# Altium footprint library Switch.PcbLib: 24 footprints (part 2 of 2)
Each footprint in its own frame and in the unit in brackets; x right, y up, seen from the top. Pads: shape width x height; smd on the part's side, far side on the other; paste and mask are expansions set on the pad; w line width, h text height; cw(c..) or ccw(c..) is an arc to the next point about the centre after c.
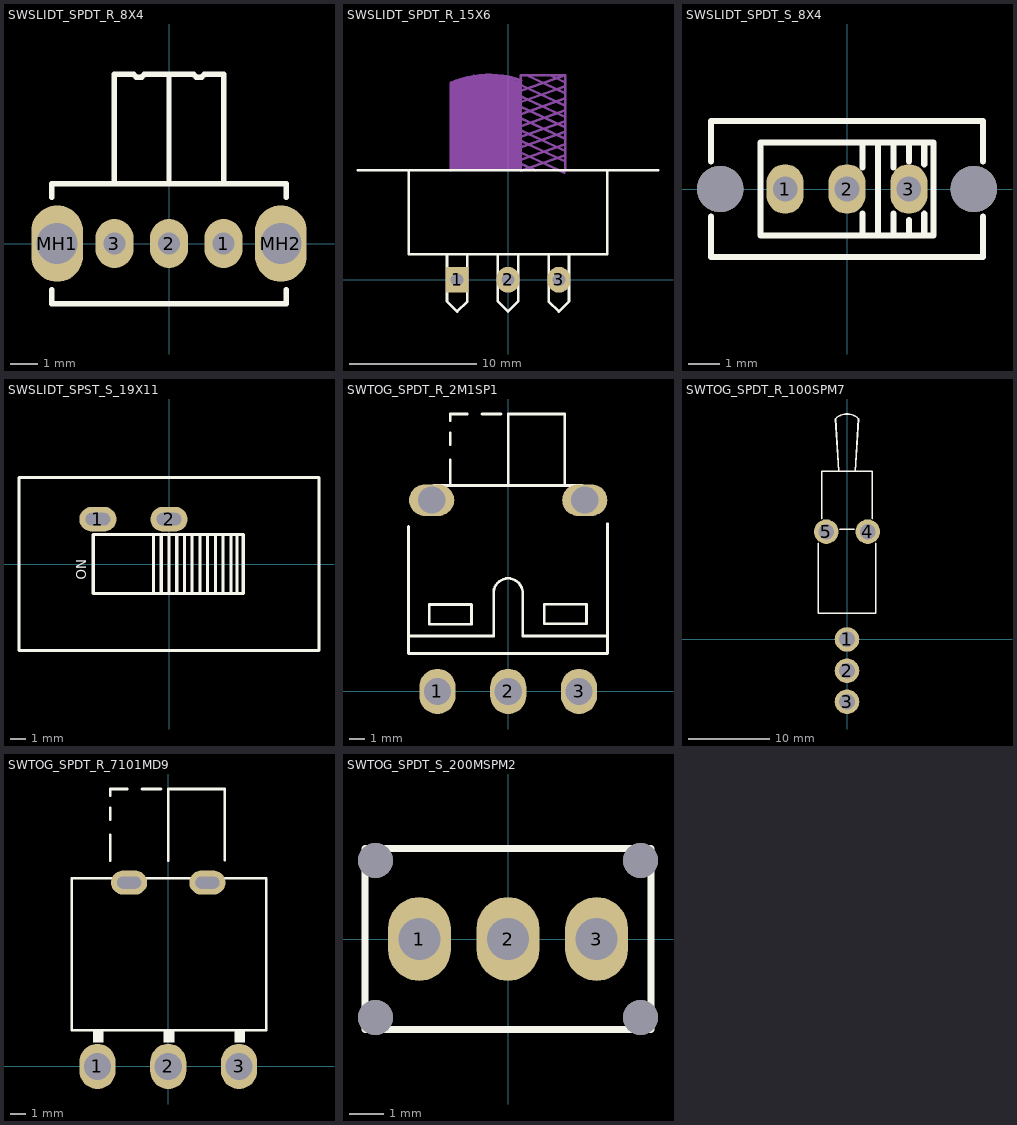
[diagram p1: the footprints below, top view; thin cyan lines are the x and y axes]

## SWSLIDT_SPDT_R_8X4 [mm] "Subminiator SPDT switch)"
pads (5):
  oval 1.4x1.8 hole 0.8: 1(2,0) 2(0,0) 3(-2,0)
  oval 1.9x2.8 hole 1.5: MH1(-4.1,0) MH2(4.1,0)
Top Overlay:
  lines w0.2: -4.3,-1.7 -4.3,-2.2 4.3,-2.2 4.3,-1.7 ; -4.3,1.7 -4.3,2.2 4.3,2.2 4.3,1.7 ; -2,2.2 -2,6.2 ; 0,2.2 0,6.2 ; 2,2.2 2,6.2 1.3,6.2 1.2,6.1 1,6.1 0.9,6.2 0,6.2 ; -2,6.2 -2,6.2 ; -2,6.2 -1.3,6.2 -1.2,6.1 -1,6.1 -0.9,6.2 0,6.2 ; 0,6.2 0,6.2 ; 0,6.2 0,6.2
3D body "User Library-CK_Slide.step": height 4.7, standoff -2.79, extent -4.311,-2.28 4.3,6.093

## SWSLIDT_SPDT_R_15X6 [mil]
pads (3):
  rect 70x80 hole 40: 1(-157.48,0)
  oval 70x80 hole 40: 2(0,0) 3(157.48,0)
Top Overlay:
  lines w7.87: -464.57,338.58 464.57,338.58 ; -307.09,338.58 -307.09,78.74 307.09,78.74 307.09,338.58 ; -188.98,78.74 -188.98,-66.93 -157.48,-98.43 -125.98,-66.93 -125.98,78.74 ; -31.5,78.74 -31.5,-66.93 0,-98.43 31.5,-66.93 31.5,78.74 ; 125.98,78.74 125.98,-66.93 157.48,-98.43 188.98,-66.93 188.98,78.74
Mechanical 3:
  region: 39.37,338.58 39.37,607.48 -177.17,607.48 -177.17,338.58
  region: -12.2,596.06 -12.2,631.5 -105.51,631.5 -105.51,596.06
  region: 40.38,596.06 40.38,617.04 -12.2,617.04 -12.2,596.06
  region: 14.17,617.04 14.17,627.56 -22.44,627.56 -22.44,617.04
  region: -105.51,596.06 -105.51,624.41 -135.83,624.41 -135.83,596.06
  region: -135.83,596.06 -135.83,619.69 -164.17,619.69 -164.17,596.06
  region: -158.66,596.06 -158.66,612.6 -168.11,612.6 -168.11,596.06
  region: 23.62,607.87 23.62,622.44 9.06,622.44 9.06,607.87
  lines w7.87: -177.17,338.58 -177.17,607.48 ; 39.37,337.01 177.17,385.43 ; 39.37,338.58 39.37,633.86 177.17,633.86 ; 39.37,359.45 83.86,338.58 ; 39.37,371.65 177.17,420.08 ; 39.37,394.09 174.02,331.5 ; 39.37,409.84 177.17,458.27 ; 39.37,442.52 177.17,490.94 ; 39.37,475.98 177.17,524.41 ; 39.37,512.99 177.17,561.42 ; 39.37,550.39 177.17,598.82 ; 39.37,585.43 177.17,633.86 ; 42.52,428.74 177.17,366.14 ; 42.52,461.42 177.17,398.82 ; 42.52,498.82 177.17,436.22 ; 42.52,534.65 177.17,472.05 ; 42.52,566.54 177.17,503.94 ; 42.52,601.57 177.17,538.98 ; 56.69,633.86 177.17,577.17 ; 128.35,633.86 177.17,611.02 ; 177.17,338.58 177.17,633.86
  lines w10: -176.89,608.82 cw(c-57.87,338.58) 39.48,617.36
3D body "spdt.STEP": height 356.3, standoff -157.48, extent -462.01,-68.5 462.01,659.85

## SWSLIDT_SPDT_S_8X4 [mm] "Switch, Slide, SPDT, Straight, THD, 8.6X4.3mm"
pads (5):
  oval 1.2x1.6 hole 0.8: 1(-2,0) 2(0,0) 3(2,0)
  round 1.5 hole 1.5 unplated: ""(-4.1,0) ""(4.1,0)
Top Overlay:
  lines w0.2: -4.4,-0.9 -4.4,-2.2 4.4,-2.2 4.4,-0.9 ; -4.4,0.9 -4.4,2.2 4.4,2.2 4.4,0.9 ; 0.5,-1.5 0.5,-0.8 ; 0.5,0.7 0.5,1.5 ; 1,-1.5 1,1.5 ; 1.5,-1.5 1.5,-0.8 ; 1.5,0.7 1.5,1.5 ; 2,-1.5 2,-1 ; 2,0.9 2,1.5 ; 2.5,-1.5 2.5,-0.8 ; 2.5,0.8 2.5,1.5 ; -2.8,-1.5 2.8,-1.5 2.8,1.5 -2.8,1.5 -2.8,-1.5
3D body "OS102011MS2QN1.stp": height 8.8, standoff -2.7, extent -4.3,-2.15 4.3,2.15

## SWSLIDT_SPST_S_19X11 [mm] "Switch, Slide, SPST, Straight, THD, 19X11mm"
pads (2):
  oval 2.4x1.6 hole 0.8 slot 1.6 at 0 deg: 1(-4.6,2.9) 2(0,2.9)
Top Overlay:
  lines w0.2: -1,-1.9 -1,1.9 ; -0.5,-1.9 -0.5,1.9 ; -0.05,-1.9 0,-1.85 0,1.9 ; 0.5,-1.9 0.5,1.9 ; 1,-1.9 1,1.9 ; 1.5,-1.9 1.5,1.9 ; 2,-1.9 2,1.9 ; 2.5,-1.9 2.5,1.9 ; 3,-1.9 3,1.9 ; 3.5,-1.9 3.5,1.9 ; 4,-1.9 4,1.9 ; 4.4,-1.9 4.4,1.9 ; -9.7,-5.6 -9.7,5.6 9.7,5.6 9.7,-5.6 -9.7,-5.6 ; -4.9,-1.9 -4.9,1.9 4.8,1.9 4.8,-1.9 -4.9,-1.9
  text "NO" at -6,0.3 h0.64
3D body "L101011MS02Q.stp": height 14.11, standoff -4.17, extent -9.563,-5.448 9.563,5.448

## SWTOG_SPDT_R_2M1SP1 [mm] "Switch Toggle, 2M1-SP1-T2-B4-M6RE"
pads (5):
  oval 2.4x3 hole 1.8: 1(-4.7,0) 2(0,0) 3(4.7,0)
  oval 3x2.1 hole 1.8: " "(-5.08,12.7) " "(5.08,12.7)
Top Overlay:
  lines w0.178: -6.624,10.95 -6.624,2.515 6.594,2.515 6.594,11.121 ; -6.621,3.674 -0.966,3.674 -0.966,6.622 cw(c-0.005,6.539) 0.956,6.622 0.956,3.674 6.573,3.674 ; -4.95,13.667 4.92,13.667 ; -3.857,13.667 -3.857,15.375 ; -3.857,16.366 -3.857,17.151 ; -3.857,17.971 -3.857,18.415 -2.73,18.415 ; -1.739,18.415 -0.476,18.415 ; 0.002,13.667 0.002,18.415 3.759,18.415 3.759,13.702 ; -5.24,4.458 -5.24,5.764 -2.44,5.764 -2.44,4.458 -5.24,4.458 ; 2.397,4.481 2.397,5.787 5.196,5.787 5.196,4.481 2.397,4.481
3D body "User Library-7101MD9ABE CK switch.step": height 6.93, standoff -2.86, extent -6.35,-0.4 6.35,26.54

## SWTOG_SPDT_R_100SPM7 [mm] "Switch Toggle, SPDT RightAngle (manufacturer: E.SWITCH) 100SP1T2B4M7RE"
height 13
pads (5):
  round 3 hole 1.9: 1(0,0) 2(0,-3.81) 3(0,-7.62) 4(2.54,13.2) 5(-2.54,13.2)
Top Overlay:
  lines w0.2: -3.5,11.79 -3.5,3.19 3.5,3.19 3.5,11.79 ; -3.1,14.79 -3.1,20.59 3.1,20.59 3.1,14.79 ; -1,20.59 -1.414,27.004 cw(c0,25.59) 1.414,27.004 1,20.59 ; -0.9,13.49 0.9,13.49
3D body: height 12.7, standoff 0, extent -3.4,3.29 3.4,13.39
3D body: height 8.79, standoff 5.02, extent -1.29,20.546 1.3,27.89
3D body: height 9.4, standoff 3.2, extent -3.076,13.39 3.124,20.69

## SWTOG_SPDT_R_7101MD9 [mm] "Switch Toggle, 7101MD9ABE"
pads (5):
  oval 2.4x3 hole 1.8: 1(-4.7,0) 2(0,0) 3(4.7,0)
  oval 2.4x1.6 hole 0.8 slot 1.6 at 0 deg: " "(-2.6,12.2) " "(2.6,12.2)
Top Overlay:
  rectangle: -5,1.6 -4.3,2.4
  rectangle: -0.3,1.6 0.4,2.4
  rectangle: 4.4,1.6 5.1,2.4
  lines w0.178: -3.857,13.667 -3.857,15.375 ; -3.857,16.366 -3.857,17.151 ; -3.857,17.971 -3.857,18.415 -2.73,18.415 ; -1.739,18.415 -0.476,18.415 ; 0.002,13.667 0.002,18.415 3.759,18.415 3.759,13.702 ; -6.4,2.4 -6.4,12.5 6.5,12.5 6.5,2.4 -6.4,2.4
3D body "User Library-7101MD9ABE CK switch.step": height 6.93, standoff -2.86, extent -6.35,-0.4 6.35,26.54

## SWTOG_SPDT_S_200MSPM2 [mm] "Switch Toggle, SPDT RightAngle, E.SWITCH 200MSP1T1B1M2QEH"
height 13
pads (7):
  oval 1.8x2.4 hole 1.2: 1(-2.54,0) 2(0,0) 3(2.54,0)
  round 1 hole 1 unplated: ""(-3.8,-2.25) ""(-3.8,2.25) ""(3.8,-2.25) ""(3.8,2.25)
Top Overlay:
  lines w0.2: -4.1,-2.6 -4.1,2.6 4.1,2.6 4.1,-2.6 -4.1,-2.6
3D body "User Library-200MSP1T1B1M2QEH.step": height 22.39, standoff -4.34, extent -4.065,-3 4.065,3